# EAGLE library part ADR3525 (library aoba)
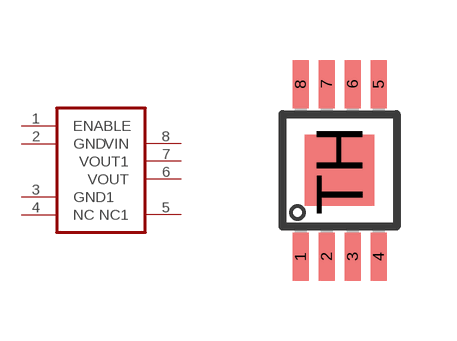
[diagram p5: symbol with the pads of ADR3525; footprint ADR3525]

Designator prefix -

## ADR3525  [ADR3525]
1  ENABLE
2  GND
3  GND1
4  NC
5  NC1
6  VOUT
7  VOUT1
8  VIN

## Footprint ADR3525 (pad centres in mm)
smd 0.4 x 1.2: 1 -1.405,-1.337; 2 -0.755,-1.337; 3 -0.105,-1.337; 4 0.545,-1.337; 5 0.545,2.977; 6 -0.105,2.977; 7 -0.755,2.977; 8 -1.405,2.977
smd 1.73 x 1.78: TH -0.43,0.82